# Altium footprint library DAPLink-STM32F103CBT6.PcbLib: 11 footprints
Each footprint in its own frame and in the unit in brackets; x right, y up, seen from the top. Pads: shape width x height; smd on the part's side, far side on the other; paste and mask are expansions set on the pad; w line width, h text height; cw(c..) or ccw(c..) is an arc to the next point about the centre after c.
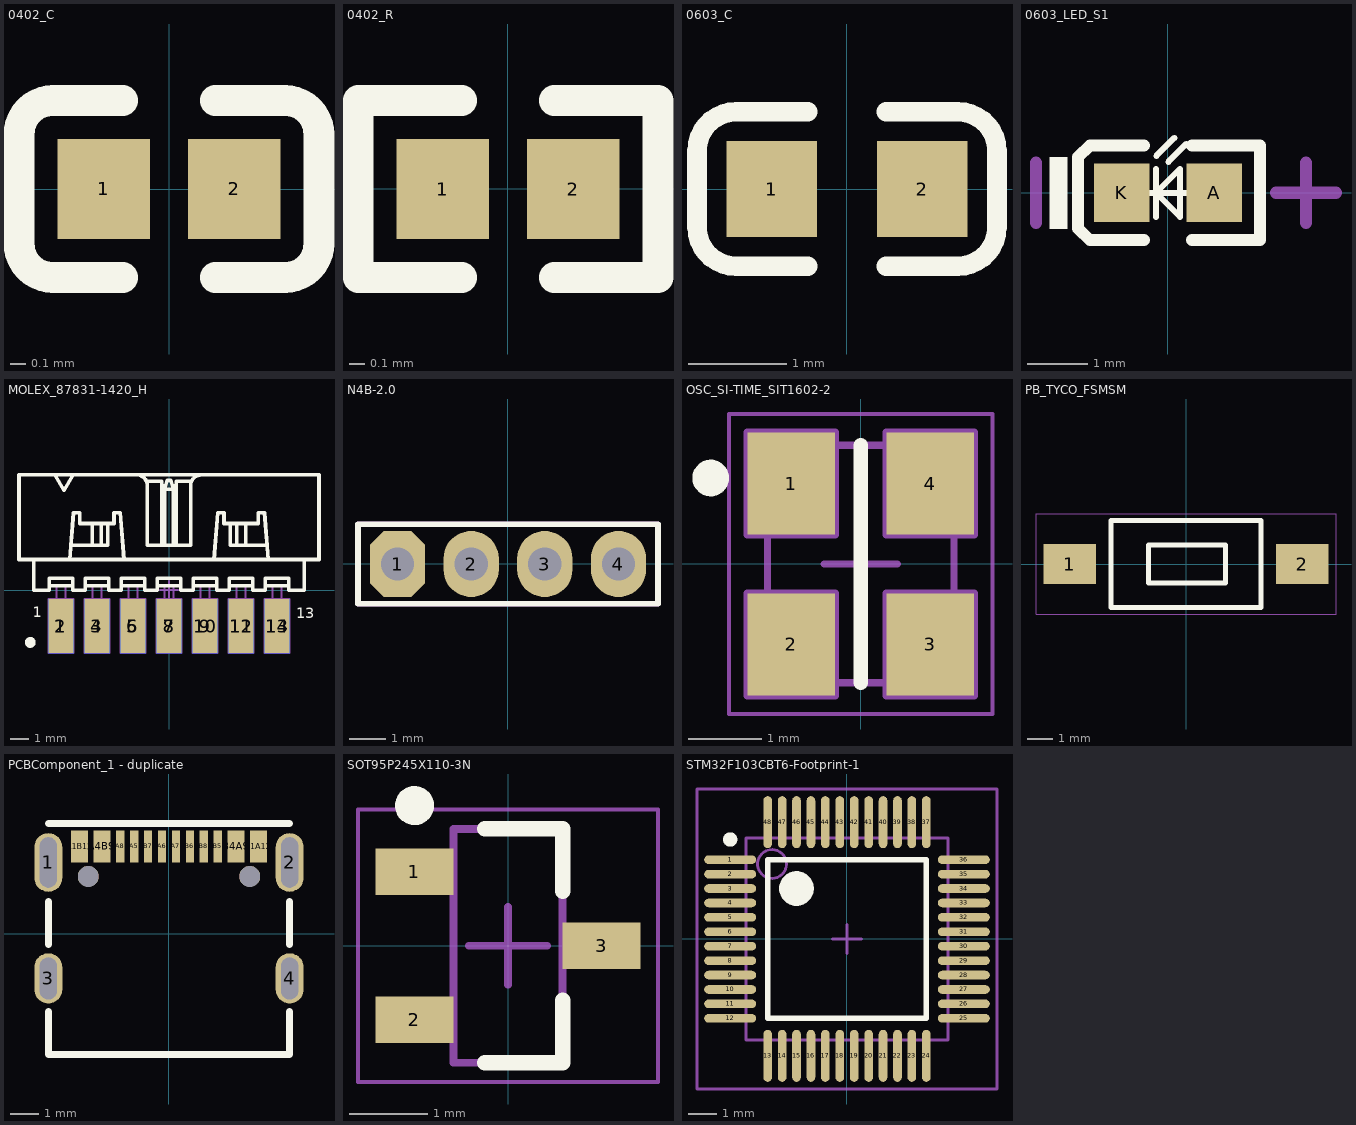
[diagram p0: the footprints below, top view; thin cyan lines are the x and y axes]

## 0402_C [mm]
pads (2):
  rect 0.6x0.65 smd mask+0.051: 1(-0.425,0) 2(0.425,0)
Top Overlay:
  lines w0.2: -0.755,-0.575 cw(c-0.755,-0.355) -0.975,-0.355 -0.975,0.355 cw(c-0.755,0.355) -0.755,0.575 ; -0.75,-0.575 -0.3,-0.575 ; -0.75,0.575 -0.3,0.575 ; 0.3,-0.575 0.75,-0.575 ; 0.3,0.575 0.75,0.575 ; 0.755,-0.575 ccw(c0.755,-0.355) 0.975,-0.355 0.975,0.355 ccw(c0.755,0.355) 0.755,0.575
Top Designator:
  text ".Designator" at -7.618,-0.508 h1.52
3D body "0402 SMD Capacitor.step": height 0.2, standoff 0, extent -0.483,-0.3 0.518,0.3

## 0402_R [mm]
pads (2):
  rect 0.6x0.65 smd mask+0.051: 1(-0.425,0) 2(0.425,0)
Top Overlay:
  lines w0.2: -0.3,-0.575 -0.975,-0.575 -0.975,0.575 -0.3,0.575 ; 0.3,-0.575 0.975,-0.575 0.975,0.575 0.3,0.575
Top Designator:
  text ".Designator" at 7.618,0.508 h1.52
3D body "User Library-RES_1005-0402.STEP": height 0.41, standoff 0, extent -0.575,-0.275 0.575,0.275

## 0603_C [mm]
pads (2):
  rect 0.93x0.98 smd: 1(-0.77,0) 2(0.77,0)
Top Overlay:
  lines w0.2: -0.4,-0.79 -1.135,-0.79 cw(c-1.135,-0.39) -1.535,-0.39 -1.535,0.39 cw(c-1.135,0.39) -1.135,0.79 -0.4,0.79 ; 0.4,-0.79 1.135,-0.79 ccw(c1.135,-0.39) 1.535,-0.39 1.535,0.39 ccw(c1.135,0.39) 1.135,0.79 0.4,0.79
Top Designator:
  text ".Designator" at -7.618,-0.508 h1.52
3D body "User Library-0603 SMD Capacitor.STEP": height 0.3, standoff 0, extent -0.8,-0.4 0.8,0.4

## 0603_LED_S1 [mm]
pads (2):
  rect 0.93x0.98 smd: A(0.77,0) K(-0.77,0)
Top Overlay:
  rectangle: -1.975,-0.6 -1.675,0.6
  lines w0.1: -0.4,0 0.4,0 ; -0.2,-0.4 -0.2,0.4 ; -0.195,0.617 0.105,0.917 ; 0.005,0.517 0.305,0.817 ; -0.2,0 0.2,-0.4 0.2,0.4 -0.2,0
  lines w0.2: -0.4,-0.79 -1.3,-0.79 -1.5,-0.597 -1.5,0.597 -1.3,0.79 -0.4,0.79 ; 0.4,-0.79 1.535,-0.79 1.535,0.79 0.4,0.79
Top Designator:
  text ".Designator" at -7.318,-0.469 h1.52
Top Courtyard:
  lines w0.203: -2.2,-0.5 -2.2,0.5 ; 1.8,0 2.8,0 ; 2.3,-0.5 2.3,0.5
3D body "User Library-LED_0603_R.STEP": height 0.6, standoff 0, extent -0.8,-0.4 0.8,0.4

## MOLEX_87831-1420_H [mm] "2.00mm (.079\") Pitch Milli-Grid?Header, Vertical, Shrouded, Center Polarization Slot, Locking Window, 14 Circuits (Customized PCB Edge assembly)"
height 3.15
pads (14):
  rect 1.4x3 smd paste-1.5: 1(-6,-2) 3(-4,-2) 5(-2,-2) 7(0,-2) 9(2,-2) 11(4,-2) 13(6,-2)
  rect 1.4x3 smd far side paste-1.5: 2(-6,-2) 4(-4,-2) 6(-2,-2) 8(0,-2) 10(2,-2) 12(4,-2) 14(6,-2)
Top Overlay:
  circle w0.3: c-7.7,-2.9 r0.15
  lines w0.2: -7.5,1.7 -7.5,0 -6.65,0 -6.65,0.654 -5.35,0.654 -5.35,0 -4.65,0 -4.65,0.654 -3.35,0.654 -3.35,0 -2.65,0 -2.65,0.654 -1.35,0.654 -1.35,0 -0.65,0 -0.65,0.654 0.65,0.654 0.65,0 1.35,0 1.35,0.654 2.65,0.654 2.65,0 3.35,0 3.35,0.654 4.65,0.654 4.65,0 5.35,0 5.35,0.654 6.65,0.654 6.65,0 7.5,0 7.5,1.7 ; -6.65,0.25 -5.35,0.25 ; -6.325,6.4 -5.825,5.534 -5.325,6.4 ; -5.5,1.7 -5.3,4.3 -4.95,4.3 -4.95,3.7 -3.05,3.7 -3.05,4.3 -2.7,4.3 -2.5,1.7 ; -5.438,2.5 -3.4,2.5 -3.4,3.7 -4.25,3.7 -4.25,2.5 ; -4.65,0.25 -3.35,0.25 ; -3.75,2.5 -3.75,3.7 ; -2.65,0.25 -1.35,0.25 ; -1.8,6.4 cw(c-1.8,5.8) -1.2,5.8 -1.2,2.5 ; -1.255,6.05 -0.4,6.05 -0.4,2.5 ; -0.65,0.25 0.65,0.25 ; -0.4,5.8 -0.19,5.8 ; -0.25,2.5 -0.25,5.6 ; 0.19,5.8 0.4,5.8 ; 0.25,2.5 0.25,5.6 ; 0.4,2.5 0.4,6.05 1.255,6.05 ; 1.35,0.25 2.65,0.25 ; 1.8,6.4 ccw(c1.8,5.8) 1.2,5.8 1.2,2.5 ; 2.5,1.7 2.7,4.3 3.05,4.3 3.05,3.7 4.95,3.7 4.95,4.3 5.3,4.3 5.5,1.7 ; 3.35,0.25 4.65,0.25 ; 3.75,2.5 3.75,3.7 ; 4.25,2.5 4.25,3.7 3.4,3.7 3.4,2.5 5.438,2.5 ; 5.35,0.25 6.65,0.25 ; -1.2,2.5 1.2,2.5 ; -1.2,2.5 1.2,2.5 ; -0.25,5.6 -0.1,6.1 0.1,6.1 0.25,5.6 ; -0.25,5.6 0.25,5.6 ; -8.325,1.7 -8.325,6.4 8.325,6.4 8.325,1.7 -8.325,1.7
  text "1" at -7.55,-1.7 h1.02
  text "13" at 7.05,-1.75 h1.02
Bottom Overlay:
  text "2" at -7.035,-2.75 h1.02
  text "14" at 7.973,-2.9 h1.02
Top Designator:
  text ".Designator" at 7.618,1.881 h1.52
Mechanical 8:
  lines w0.1: -6.5,-2 -6,-2 ; -6,-2.5 -6,-2 ; -6,-1.5 -6,-2 ; -5.5,-2 -6,-2 ; -4.5,-2 -4,-2 ; -4,-2.5 -4,-2 ; -4,-1.5 -4,-2 ; -3.5,-2 -4,-2 ; -2.5,-2 -2,-2 ; -2,-2.5 -2,-2 ; -2,-1.5 -2,-2 ; -1.5,-2 -2,-2 ; -0.5,-2 0,-2 ; -0.5,0 0,0 ; 0,-2.5 0,-2 ; 0,-1.5 0,-2 ; 0,-0.5 0,0 ; 0,0.5 0,0 ; 0.5,-2 0,-2 ; 0.5,0 0,0 ; 1.5,-2 2,-2 ; 2,-2.5 2,-2 ; 2,-1.5 2,-2 ; 2.5,-2 2,-2 ; 3.5,-2 4,-2 ; 4,-2.5 4,-2 ; 4,-1.5 4,-2 ; 4.5,-2 4,-2 ; 5.5,-2 6,-2 ; 6,-2.5 6,-2 ; 6,-1.5 6,-2 ; 6.5,-2 6,-2 ; -6.7,-3.5 -5.3,-3.5 -5.3,-0.5 -6.7,-0.5 -6.7,-3.5 ; -4.7,-3.5 -3.3,-3.5 -3.3,-0.5 -4.7,-0.5 -4.7,-3.5 ; -2.7,-3.5 -1.3,-3.5 -1.3,-0.5 -2.7,-0.5 -2.7,-3.5 ; -0.7,-3.5 0.7,-3.5 0.7,-0.5 -0.7,-0.5 -0.7,-3.5 ; 1.3,-3.5 2.7,-3.5 2.7,-0.5 1.3,-0.5 1.3,-3.5 ; 3.3,-3.5 4.7,-3.5 4.7,-0.5 3.3,-0.5 3.3,-3.5 ; 5.3,-3.5 6.7,-3.5 6.7,-0.5 5.3,-0.5 5.3,-3.5
Top Assembly:
  lines w0.1: -7.5,1.7 -7.5,0 -6.65,0 -6.65,0.654 -5.35,0.654 -5.35,0 -4.65,0 -4.65,0.654 -3.35,0.654 -3.35,0 -2.65,0 -2.65,0.654 -1.35,0.654 -1.35,0 -0.65,0 -0.65,0.654 0.65,0.654 0.65,0 1.35,0 1.35,0.654 2.65,0.654 2.65,0 3.35,0 3.35,0.654 4.65,0.654 4.65,0 5.35,0 5.35,0.654 6.65,0.654 6.65,0 7.5,0 7.5,1.7 ; -6.65,0.25 -5.35,0.25 ; -6.325,6.4 -5.825,5.534 -5.325,6.4 ; -6.25,0.25 -6.25,-2 ; -5.75,0.25 -5.75,-2 ; -5.5,1.7 -5.3,4.3 -4.95,4.3 -4.95,3.7 -3.05,3.7 -3.05,4.3 -2.7,4.3 -2.5,1.7 ; -5.438,2.5 -3.4,2.5 -3.4,3.7 -4.25,3.7 -4.25,2.5 ; -4.65,0.25 -3.35,0.25 ; -4.25,0.25 -4.25,-2 ; -3.75,0.25 -3.75,-2 ; -3.75,2.5 -3.75,3.7 ; -2.65,0.25 -1.35,0.25 ; -2.25,0.25 -2.25,-2 ; -1.8,6.4 cw(c-1.8,5.8) -1.2,5.8 -1.2,2.5 ; -1.75,0.25 -1.75,-2 ; -1.255,6.05 -0.4,6.05 -0.4,2.5 ; -0.65,0.25 0.65,0.25 ; -0.4,5.8 -0.19,5.8 ; -0.25,0.25 -0.25,-2 ; -0.25,2.5 -0.25,5.6 ; 0.19,5.8 0.4,5.8 ; 0.25,0.25 0.25,-2 ; 0.25,2.5 0.25,5.6 ; 0.4,2.5 0.4,6.05 1.255,6.05 ; 1.35,0.25 2.65,0.25 ; 1.75,0.25 1.75,-2 ; 1.8,6.4 ccw(c1.8,5.8) 1.2,5.8 1.2,2.5 ; 2.25,0.25 2.25,-2 ; 2.5,1.7 2.7,4.3 3.05,4.3 3.05,3.7 4.95,3.7 4.95,4.3 5.3,4.3 5.5,1.7 ; 3.35,0.25 4.65,0.25 ; 3.75,0.25 3.75,-2 ; 3.75,2.5 3.75,3.7 ; 4.25,0.25 4.25,-2 ; 4.25,2.5 4.25,3.7 3.4,3.7 3.4,2.5 5.438,2.5 ; 5.35,0.25 6.65,0.25 ; 5.75,0.25 5.75,-2 ; 6.25,0.25 6.25,-2 ; -6.25,-2 -5.75,-2 ; -6.25,-2 -6.1,-2.5 -5.9,-2.5 -5.75,-2 ; -4.25,-2 -3.75,-2 ; -4.25,-2 -4.1,-2.5 -3.9,-2.5 -3.75,-2 ; -2.25,-2 -2.1,-2.5 -1.9,-2.5 -1.75,-2 ; -2.25,-2 -1.75,-2 ; -1.2,2.5 1.2,2.5 ; -1.2,2.5 1.2,2.5 ; -0.25,-2 -0.1,-2.5 0.1,-2.5 0.25,-2 ; -0.25,-2 0.25,-2 ; -0.25,5.6 -0.1,6.1 0.1,6.1 0.25,5.6 ; -0.25,5.6 0.25,5.6 ; 1.75,-2 1.9,-2.5 2.1,-2.5 2.25,-2 ; 1.75,-2 2.25,-2 ; 3.75,-2 3.9,-2.5 4.1,-2.5 4.25,-2 ; 3.75,-2 4.25,-2 ; 5.75,-2 5.9,-2.5 6.1,-2.5 6.25,-2 ; 5.75,-2 6.25,-2 ; -8.325,1.7 -8.325,6.4 8.325,6.4 8.325,1.7 -8.325,1.7
3D body "MOLEX_87831-1420_h.stp": height 2.35, standoff -3.95, extent -8.325,-2.5 8.325,6.4
3D body "p300-140.stp": height 0.02, standoff 0, extent -6.669,-3.532 -5.269,-0.532
3D body "p300-140.stp": height 0.02, standoff 0, extent -4.637,-3.532 -3.237,-0.532
3D body "p300-140.stp": height 0.02, standoff 0, extent -2.732,-3.532 -1.332,-0.532
3D body "p300-140.stp": height 0.02, standoff 0, extent -0.7,-3.532 0.7,-0.532
3D body "p300-140.stp": height 0.02, standoff 0, extent 1.332,-3.532 2.732,-0.532
3D body "p300-140.stp": height 0.02, standoff 0, extent 3.237,-3.532 4.637,-0.532
3D body "p300-140.stp": height 0.02, standoff 0, extent 5.269,-3.532 6.669,-0.532

## N4B-2.0 [mm]
height 8.4
pads (4):
  oct 1.5x1.8 hole 0.9: 1(-3,0)
  oval 1.5x1.8 hole 0.9: 2(-1,0) 3(1,0) 4(3,0)
Top Overlay:
  lines w0.15: -4.075,-1.075 -4.075,1.075 4.075,1.075 4.075,-1.075 -4.075,-1.075
Top Designator:
  text ".Designator" at 7.618,0.508 h1.52
Bottom Glue Points:
  lines w0.15: -4.075,-1.075 -4.075,1.075 4.075,1.075 4.075,-1.075 -4.075,-1.075
Top Courtyard:
  lines w0.15: -4.075,-1.075 -4.075,1.075 4.075,1.075 4.075,-1.075 -4.075,-1.075
3D body "1x2x04.stp": height 5.6, standoff -2.8, extent -4,-1 4,1

## OSC_SI-TIME_SIT1602-2 [mm] "SiT1602 Oscillators Series, Version 3.2mmx2.5mm, Pitch 2.1mm; 4 Pin"
height 0.8
pads (4):
  rect 1.2x1.4 smd: 1(-0.95,1.1) 2(-0.95,-1.1) 3(0.95,-1.1) 4(0.95,1.1)
Top Overlay:
  circle w0.25: c-2.05,1.175 r0.125
  lines w0.2: 0,-1.625 0,1.625
Top Designator:
  text ".Designator" at -7.855,-0.508 h1.52
Mechanical 8:
  lines w0.1: -1.45,-1.1 -0.95,-1.1 ; -1.45,1.1 -0.95,1.1 ; -0.95,-1.6 -0.95,-1.1 ; -0.95,-0.6 -0.95,-1.1 ; -0.95,0.6 -0.95,1.1 ; -0.95,1.6 -0.95,1.1 ; -0.5,0 0,0 ; -0.45,-1.1 -0.95,-1.1 ; -0.45,1.1 -0.95,1.1 ; 0,-0.5 0,0 ; 0,0.5 0,0 ; 0.45,-1.1 0.95,-1.1 ; 0.45,1.1 0.95,1.1 ; 0.5,0 0,0 ; 0.95,-1.6 0.95,-1.1 ; 0.95,-0.6 0.95,-1.1 ; 0.95,0.6 0.95,1.1 ; 0.95,1.6 0.95,1.1 ; 1.45,-1.1 0.95,-1.1 ; 1.45,1.1 0.95,1.1 ; -1.55,-1.8 -1.55,-0.4 -0.35,-0.4 -0.35,-1.8 -1.55,-1.8 ; -1.55,0.4 -1.55,1.8 -0.35,1.8 -0.35,0.4 -1.55,0.4 ; 0.35,-1.8 0.35,-0.4 1.55,-0.4 1.55,-1.8 0.35,-1.8 ; 0.35,0.4 0.35,1.8 1.55,1.8 1.55,0.4 0.35,0.4
Top Assembly:
  circle w0.1: c-0.775,1.125 r0.25
  lines w0.1: -1.275,-1.625 -1.275,1.625 1.275,1.625 1.275,-1.625 -1.275,-1.625
Top Courtyard:
  lines w0.05: -1.8,-2.05 -1.8,2.05 1.8,2.05 1.8,-2.05 -1.8,-2.05
3D body "p140-120.stp": height 0.02, standoff 0, extent -1.55,0.4 -0.35,1.8
3D body "p140-120.stp": height 0.02, standoff 0, extent 0.35,0.4 1.55,1.8
3D body "p140-120.stp": height 0.02, standoff 0, extent 0.35,-1.8 1.55,-0.4
3D body "p140-120.stp": height 0.02, standoff 0, extent -1.55,-1.8 -0.35,-0.4
3D body "OSC_SI-TIME_SiT1602-2.stp": height 0.8, standoff 0, extent -1.275,-1.625 1.275,1.625

## PB_TYCO_FSMSM [mm] "Body 3.5x6.0mm, Pushbutton Switch,  TYCO FSMSM Serie"
height 4.3
pads (2):
  rect 2.1x1.6 smd: 1(-4.65,0) 2(4.65,0)
Top Overlay:
  lines w0.2: -3,-1.75 -3,1.75 3,1.75 3,-1.75 -3,-1.75 ; -1.5,-0.75 -1.5,0.75 1.575,0.75 1.575,-0.75 -1.5,-0.75
Top Designator:
  text ".Designator" at 7.618,0.508 h1.52
Top Assembly:
  lines w0.1: -3,-1.75 3,-1.75 3,1.75 -3,1.75 -3,-1.75 ; -1.5,-0.75 1.575,-0.75 1.575,0.75 -1.5,0.75 -1.5,-0.75
Top Courtyard:
  lines w0.05: -6,-2 -6,2 6,2 6,-2 -6,-2
3D body "PB_TYCO_FSMSM.stp": height 4.3, standoff 0, extent -5,-1.75 5,1.75

## PCBComponent_1 - duplicate [mm]
pads (18):
  oval 1x2.099 hole 0.61 slot 1.8 at 90 deg: 1(-4.307,2.55) 2(4.333,2.55)
  oval 1x1.799 hole 0.61 slot 1.5 at 90 deg: 3(-4.307,-1.6) 4(4.333,-1.6)
  rect 0.6x1.15 smd: A1B12(-3.187,3.125) A4B9(-2.387,3.125) B1A12(3.213,3.125) B4A9(2.413,3.125)
  rect 0.3x1.15 smd: A5(-1.237,3.125) A6(-0.237,3.125) A7(0.263,3.125) A8(-1.737,3.125) B5(1.763,3.125) B6(0.763,3.125) B7(-0.737,3.125) B8(1.263,3.125)
  round 0.75 hole 0.75 unplated: ""(-2.877,2.05) ""(2.903,2.05)
Top Overlay:
  lines w0.254: -4.305,-4.318 4.331,-4.318 ; -4.305,-4.318 -4.305,-2.794 -4.305,-4.318 ; -4.305,-4.318 4.331,-4.318 ; 4.331,-4.318 4.331,-2.794 4.331,-4.318 ; -4.305,-0.381 -4.305,1.143 -4.305,-0.381 ; -4.305,3.937 4.331,3.937 -4.305,3.937 ; 4.331,-0.381 4.331,1.143 4.331,-0.381
Top Designator:
  text ".Designator" at 7.63,0.317 h1.52
Top Assembly:
  text "'.Designator'" at -0.635,-0.476 h1.52
3D body "User Library-USB-TYPE-C20.step": height 3.26, standoff -1.09, extent -4.47,-4.278 4.47,3.302

## SOT95P245X110-3N [mm] "SOT23, 3-Leads, Body 2.90x2.45mm, Pitch 0.95mm, IPC Medium Density"
height 1.1
pads (3):
  rect 1x0.6 smd: 1(-1.2,0.95) 2(-1.2,-0.95) 3(1.2,0)
Top Overlay:
  circle w0.25: c-1.2,1.8 r0.125
  lines w0.2: -0.3,-1.5 0.7,-1.5 0.7,-0.7 ; -0.3,1.5 0.7,1.5 0.7,0.7
Top Designator:
  text ".Designator" at -7.618,-0.37 h1.52
Top Assembly:
  lines w0.1: -0.7,-1.5 0.7,-1.5 0.7,1.5 -0.7,1.5 -0.7,-1.5
Top Courtyard:
  lines w0.05: -1.925,-1.75 1.925,-1.75 1.925,1.75 -1.925,1.75 -1.925,-1.75
  lines w0.1: -0.5,0 0.5,0 ; 0,-0.5 0,0.5
3D body "SOT95P245X110-3N.step": height 1.1, standoff 0, extent -1.3,-1.5 1.3,1.5

## STM32F103CBT6-Footprint-1 [mm]
pads (48):
  oval 1.8x0.3 smd: 1(-4.05,2.75) 2(-4.05,2.25) 3(-4.05,1.75) 4(-4.05,1.25) 5(-4.05,0.75) 6(-4.05,0.25) 7(-4.05,-0.25) 8(-4.05,-0.75) 9(-4.05,-1.25) 10(-4.05,-1.75) 11(-4.05,-2.25) 12(-4.05,-2.75) 25(4.05,-2.75) 26(4.05,-2.25) 27(4.05,-1.75) 28(4.05,-1.25) 29(4.05,-0.75) 30(4.05,-0.25) 31(4.05,0.25) 32(4.05,0.75) 33(4.05,1.25) 34(4.05,1.75) 35(4.05,2.25) 36(4.05,2.75)
  oval 0.3x1.8 smd: 13(-2.75,-4.05) 14(-2.25,-4.05) 15(-1.75,-4.05) 16(-1.25,-4.05) 17(-0.75,-4.05) 18(-0.25,-4.05) 19(0.25,-4.05) 20(0.75,-4.05) 21(1.25,-4.05) 22(1.75,-4.05) 23(2.25,-4.05) 24(2.75,-4.05) 37(2.75,4.05) 38(2.25,4.05) 39(1.75,4.05) 40(1.25,4.05) 41(0.75,4.05) 42(0.25,4.05) 43(-0.25,4.05) 44(-0.75,4.05) 45(-1.25,4.05) 46(-1.75,4.05) 47(-2.25,4.05) 48(-2.75,4.05)
Top Overlay:
  circle w0.6: c-1.75,1.75 r0.3
  circle w0.25: c-4.05,3.45 r0.125
  lines w0.2: -2.75,-2.75 2.75,-2.75 2.75,2.75 -2.75,2.75 -2.75,-2.75
Top Designator:
  text ".Designator" at -7.618,-0.508 h1.52
Top Assembly:
  circle w0.1: c-2.6,2.6 r0.5
  lines w0.1: -3.5,-3.5 3.5,-3.5 3.5,3.5 -3.5,3.5 -3.5,-3.5
Top Courtyard:
  lines w0.1: -0.5,0 0.5,0 ; 0,-0.5 0,0.5 ; -5.2,-5.2 5.2,-5.2 5.2,5.2 -5.2,5.2 -5.2,-5.2
3D body: height 1.6, standoff 0, extent -3.5,-3.5 3.5,3.5